# Altium schematic symbol library POE_Schlib.SchLib: 50 symbols
Pins are listed as number, name and electrical type; pins without a type are passive.

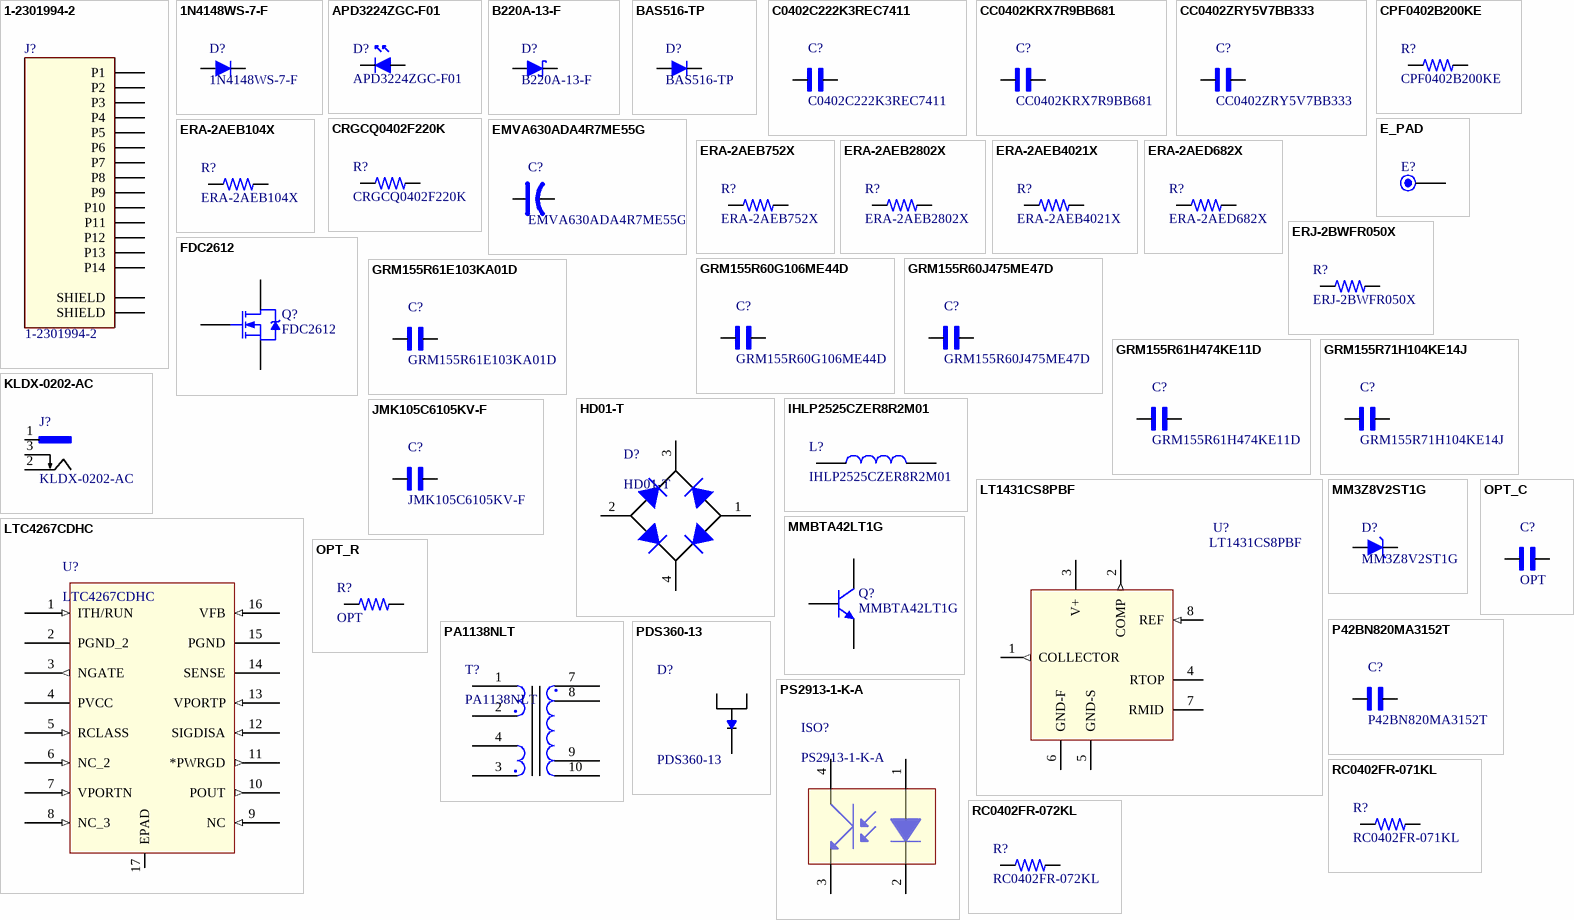
[diagram p0: symbols 1-2301994-2 to RC0402FR-072KL]

## 1-2301994-2
designator J?
SnapEDA_Link: https://www.snapeda.com/parts/1-2301994-2/TE%20Connectivity%20AMP%20Connectors/view-part/1504817/?ref=snap; Value: *
footprint *TE_1-2301994-2_1-2301994-2(Primary)
pins: P1, P2, P3, P4, P5, P6, P7, P8, P9, P10, P11, P12, P13, P14, SH1 SHIELD, SH2 SHIELD

## 1N4148WS-7-F
designator D?
Diode Standard 75V 150mA Surface Mount SOD-323; MF: Diodes Incorporated; SnapEDA_Link: https://www.snapeda.com/parts/1N4148WS-7-F/Multicomp/view-part/957937/?ref=snap; Value: 1N4148WS-7-F; Digi-Key Part Number: 1N4148WS-FDITR-ND; MP: 1N4148WS-7-F; Digi-Key_Purchase_URL: https://www.digikey.com.au/product-detail/en/diodes-incorporated/1N4148WS-7-F/1N4148WS-FDITR-ND/815127
footprint *SOD323_1N4148WS-7-F(Primary)
pins: A, C

## APD3224ZGC-F01
designator D?
Green 525nm LED Indication - Discrete 3.3V 1210 (3225 Metric); MF: Kingbright; Value: PD ON GRN; Package: None; MP: APD3224ZGC-F01; Digi-Key_Part_Number: 754-1089-2-ND; SnapEDA_Link: https://www.snapeda.com/parts/APD3224ZGC-F01/Kingbright/view-part/?ref=search&t=APD3224ZGC-F01; Digi-Key_Purchase_URL: https://www.digikey.com.au/product-detail/en/kingbright/APD3224ZGC-F01/754-1089-2-ND/1747487
footprint LED1210
pins: A, K

## B220A-13-F
designator D?
Diode Schottky 20V 2A Surface Mount SMA; MF: Diodes Incorporated; SnapEDA_Link: https://www.snapeda.com/parts/B220A-13-F/Diodes%20Inc./view-part/232956/?ref=snap; Value: *; Digi-Key Part Number: B220A-FDITR-ND; MP: B220A-13-F
footprint *SMA-DIODE
pins: 1 A, 2 C

## BAS516-TP
designator D?
Diode Standard 75V 250mA (DC) Surface Mount SOD-523; Value: BAS516; MF: Micro Commercial Co; SnapEDA_Link: https://www.snapeda.com/parts/BAS516/Nexperia%20USA/view-part/?ref=search&t=BAS516-TP; Digi-Key Part Number: BAS516-TPMSTR-ND; MP: BAS516-TP; Digi-Key_Purchase_URL: https://www.digikey.com.au/product-detail/en/micro-commercial-co/BAS516-TP/BAS516-TPMSTR-ND/7681805
footprint *SOD323_1N4148WS-7-F(Primary)
pins: A, C

## C0402C222K3REC7411
designator C?
2.2nF ±10% 25V Ceramic Capacitor X7R 0402 (1005 Metric); MF: Murata Electronics; MP: GRM155R60J475ME47D; SnapEDA_Link: https://www.snapeda.com/parts/GRM155R60J475ME47D/Murata/view-part/?ref=search&t=GRM155R60J475ME47D; Value: 2.2nF; Availability: Unavailable; Digi-Key Part Number: C0402C222K3REC7411-ND
footprint *CAPC1005X55N
pins: 1, 2

## CC0402KRX7R9BB681
designator C?
680pF ±10% 50V Ceramic Capacitor X7R 0402 (1005 Metric); MF: Yageo; SnapEDA_Link: https://www.snapeda.com/parts/CC0402KRX7R9BB681/Yageo/view-part/?ref=search&t=CC0402KRX7R9BB681; Value: 680pF; MP: CC0402KRX7R9BB681; Availability: Unavailable; Digi-Key Part Number: 311-1030-2-ND
footprint *CAPC1005X55N
pins: 1, 2

## CC0402ZRY5V7BB333
designator C?
0.033µF -20%, +80% 16V Ceramic Capacitor Y5V (F) 0402 (1005 Metric); Value: 0.033uF; MF: Yageo; SnapEDA_Link: https://www.snapeda.com/parts/CC0402ZRY5V7BB333/Yageo/view-part/?ref=search&t=CC0402ZRY5V7BB333; MP: CC0402ZRY5V7BB333; Availability: Unavailable; Digi-Key Part Number: 311-1044-2-ND
footprint *CAPC1005X55N
pins: 1, 2

## CPF0402B200KE
designator R?
200 kOhms ±0.1% 0.063W, 1/16W Chip Resistor 0402 (1005 Metric) Thin Film; MF: TE Connectivity Passive Product; Value: 200K; Package: none; MP: CPF0402B200KE; Digi-Key_Part_Number: A119933TR-ND; SnapEDA_Link: https://www.snapeda.com/parts/CPF0402B200KE/TE%20Connectivity/view-part/?ref=search&t=CPF0402B200KE; Digi-Key_Purchase_URL: https://www.digikey.com.au/product-detail/en/te-connectivity-passive-product/CPF0402B200KE/A119933TR-ND/4966463
footprint RESC1005X40N
pins: 1, 2

## CRGCQ0402F220K
designator R?
220 kOhms ±1% 0.063W, 1/16W Chip Resistor 0402 (1005 Metric) Automotive AEC-Q200, Moisture Resistant Thick Film; MF: TE Connectivity Passive Product; Value: 220K; Package: None; MP: CRGCQ0402F220K; Digi-Key_Part_Number: A129655TR-ND; SnapEDA_Link: https://www.snapeda.com/parts/CRGCQ0402F220K/TE%20Connectivity/view-part/?ref=search&t=CRGCQ0402F220K; Digi-Key_Purchase_URL: https://www.digikey.com.au/product-detail/en/te-connectivity-passive-product/CRGCQ0402F220K/A129655TR-ND/8576257
footprint RESC1005X40N
pins: 1, 2

## E_PAD
designator E?  (value not drawn)
footprint E_PAD
pins: 1

## EMVA630ADA4R7ME55G
designator C?
4.7µF 63V Aluminum Electrolytic Capacitors Radial, Can - SMD 2000 Hrs @ 85°C; Value: 4.7uF; MF: United Chemi-Con; SnapEDA_Link: https://www.snapeda.com/parts/EMVA630ADA4R7ME55G/United%20Chemi-Con/view-part/?ref=search&t=EMVA630ADA4R7ME55G; MP: EMVA630ADA4R7ME55G; Availability: Unavailable
footprint CAPAE5953X52M (Aluminum Electrolytic Capacitor, Body 5.30x5.30x5.20mm, IPC Low Density)
pins: 1, 2

## ERA-2AEB104X
designator R?
100 kOhms Â±0.1% 0.063W, 1/16W Chip Resistor 0402 _1005 Metric_ Automotive AEC-Q200 Thin Film; MF: Panasonic Electronic; Value: 100K; Package: 1005 Panasonic Electronic Components; MP: ERA-2AEB104X; Digi-Key_Part_Number: P100KDCCT-ND; SnapEDA_Link: https://www.snapeda.com/parts/ERA-2AEB104X/Panasonic%20Electronic%20Components/view-part/419877/?ref=snap; Digi-Key_Purchase_URL: https://www.digikey.com/product-detail/en/panasonic-electronic-components/ERA-2AEB104X/P100KDCCT-ND/1706231?utm_source=snapeda&utm_medium=aggregator&utm_campaign=symbol
footprint RESC1005X40N
pins: 1, 2

## ERA-2AEB752X
designator R?
7.5 kOhms ±0.1% 0.063W, 1/16W Chip Resistor 0402 (1005 Metric) Automotive AEC-Q200 Thin Film; MF: Panasonic Electronic Components; Value: 7.5K; Package: None; MP: ERA-2AEB752X; Digi-Key_Part_Number: P7.5KDCTR-ND; SnapEDA_Link: https://www.snapeda.com/parts/ERA-2AEB752X/Panasonic/view-part/?ref=search&t=ERA-2AEB752X; Digi-Key_Purchase_URL: https://www.digikey.com.au/product-detail/en/panasonic-electronic-components/ERA-2AEB752X/P7-5KDCTR-ND/1706026
footprint RESC1005X40N
pins: 1, 2

## ERA-2AEB2802X
designator R?
28 kOhms ±0.1% 0.063W, 1/16W Chip Resistor 0402 (1005 Metric) Automotive AEC-Q200 Thin Film; MF: Panasonic Electronic Components; Value: 28K; Package: None; MP: ERA-2AEB2802X; Digi-Key_Part_Number: P28KDCTR-ND; SnapEDA_Link: https://www.snapeda.com/parts/ERA-2AEB2802X/Panasonic/view-part/?ref=search&t=ERA-2AEB2802X; Digi-Key_Purchase_URL: https://www.digikey.com.au/product-detail/en/panasonic-electronic-components/ERA-2AEB2802X/P28KDCTR-ND/2026182
footprint RESC1005X40N
pins: 1, 2

## ERA-2AEB4021X
designator R?
4.02 kOhms ±0.1% 0.063W, 1/16W Chip Resistor 0402 (1005 Metric) Automotive AEC-Q200 Thin Film; MF: Panasonic Electronic Components; Value: 4.02K; Package: None; MP: ERA-2AEB4021X; Digi-Key_Part_Number: P4.02KDCTR-ND; SnapEDA_Link: https://www.snapeda.com/parts/ERA-2AEB4021X/Panasonic%20Electronic/view-part/?ref=search&t=ERA-2AEB4021X; Digi-Key_Purchase_URL: https://www.digikey.com.au/product-detail/en/panasonic-electronic-components/ERA-2AEB4021X/P4-02KDCTR-ND/2026107
footprint RESC1005X40N
pins: 1, 2

## ERA-2AED682X
designator R?
6.8 kOhms ±0.5% 0.063W, 1/16W Chip Resistor 0402 (1005 Metric) Automotive AEC-Q200 Thin Film; MF: Panasonic Electronic Components; Value: 6.8K; Package: none; MP: ERA-2AED682X; Digi-Key_Part_Number: P6.8KDETR-ND; SnapEDA_Link: https://www.snapeda.com/parts/ERA-2AED682X/Panasonic/view-part/?ref=search&t=ERA-2AED682X; Digi-Key_Purchase_URL: https://www.digikey.com.au/product-detail/en/panasonic-electronic-components/ERA-2AED682X/P6-8KDETR-ND/1706122
footprint RESC1005X40N
pins: 1, 2

## ERJ-2BWFR050X
designator R?
50 mOhms ±1% 0.25W, 1/4W Chip Resistor 0402 (1005 Metric) Automotive AEC-Q200, Current Sense Thick Film; MF: Panasonic Electronic Components; Value: 0.05R; Package: None; MP: ERJ-2BWFR050X; Digi-Key_Part_Number: P17367TR-ND; SnapEDA_Link: https://www.snapeda.com/parts/ERJ-2BWFR050X/Panasonic%20Electronic/view-part/?ref=search&t=ERJ-2BWFR050X; Digi-Key_Purchase_URL: https://www.digikey.com.au/product-detail/en/panasonic-electronic-components/ERJ-2BWFR050X/P17367TR-ND/5647400
footprint RESC1005X40N
pins: 1, 2

## FDC2612
designator Q?
N-Channel 200V 1.1A (Ta) 1.6W (Ta) Surface Mount SuperSOT™-6; MF: ON Semiconductor; SnapEDA_Link: https://www.snapeda.com/parts/FDC2612/ON%20Semiconductor/view-part/?ref=search&t=FDC2612; Digi-Key_Purchase_URL: https://www.digikey.com.au/product-detail/en/on-semiconductor/FDC2612/FDC2612TR-ND/979778; Digi-Key Part Number: FDC2612TR-ND; MP: FDC2612; Value: FDC2612; ComponentLink1Description: Manufacturer Link; ComponentLink1URL: http://www.irf.com/
footprint *SOT95P280X100-6N
simulation model IRF1010 (Spice Subcircuit)
pins: 1 D, 2 D, 3 G, 4 S, 5 D, 6 D

## GRM155R60G106ME44D
designator C?
10µF ±20% 4V Ceramic Capacitor X5R 0402 (1005 Metric); Value: 10uF; MF: Murata Electronics; SnapEDA_Link: https://www.snapeda.com/parts/GRM155R60G106ME44D/Murata/view-part/?ref=search&t=GRM155R60G106ME44D; MP: GRM155R60G106ME44D; Availability: Unavailable; Digi-Key Part Number: 490-10693-2-ND
footprint *CAPC1005X55N
pins: 1, 2

## GRM155R60J475ME47D
designator C?
4.7µF ±20% 6.3V Ceramic Capacitor X5R 0402 (1005 Metric); Value: 4.7uF; MF: Murata Electronics; SnapEDA_Link: https://www.snapeda.com/parts/GRM155R60J475ME47D/Murata/view-part/?ref=search&t=GRM155R60J475ME47D; MP: GRM155R60J475ME47D; Availability: Unavailable
footprint *CAPC1005X55N
pins: 1, 2

## GRM155R61E103KA01D
designator C?
0.01uF ±10% 25V Ceramic Capacitor X5R 0402 (1005 Metric); MF: Murata Electronics; SnapEDA_Link: https://www.snapeda.com/parts/GRM155R61E103KA01D/Murata%20Electronics/view-part/?ref=search&t=GRM155R61E103KA01D; Value: 0.01uF; MP: GRM155R61E103KA01D; Availability: Unavailable
footprint *CAPC1005X55N
pins: 1, 2

## GRM155R61H474KE11D
designator C?
0.47µF ±10% 50V Ceramic Capacitor X5R 0402 (1005 Metric); Value: 0.47uF; MF: Murata Electronics; SnapEDA_Link: https://www.snapeda.com/parts/GRM155R61H474KE11D/Murata%20Electronics/view-part/?ref=search&t=GRM155R61H474KE11D; MP: GRM155R61H474KE11D; Availability: Unavailable
footprint *CAPC1005X55N
pins: 1, 2

## GRM155R71H104KE14J
designator C?
SMD Capacitor X7R(EIA) with Capacitance: 0.10uF Tol. 10%. Rated Voltage: 50Vdc; Value: 0.1uF; MF: Murata Electronics; SnapEDA_Link: https://www.snapeda.com/parts/GRM155R71H104KE14J/Murata%20Electronics%20North%20America/view-part/1836262/?ref=snap; MP: GRM155R71H104KE14J; Availability: Unavailable
footprint *CAPC1005X55N
pins: 1, 2

## HD01-T
designator D?
Bridge Rectifier Single Phase Standard 100V Surface Mount 4-MiniDIP; MF: Diodes Incorporated; Availability: Unavailable; MP: HD01-T; Package: None; Price: None; SnapEDA_Link: https://www.snapeda.com/parts/HD01-T/Diodes%20Inc./view-part/?ref=search&t=HD01-T; Value: *
footprint HD01-T (Bridge Rectifier Single Phase Standard 100V Surface Mount 4-MiniDIP)
pins: 1, 2, 3, 4

## IHLP2525CZER8R2M01
designator L?
8.2µH Shielded Molded Inductor 4A 68mOhm Max Nonstandard; MF: Vishay Dale; Value: 8.2uH; Availability: Unavailable; MP: IHLP2525CZER8R2M01; Package: None; Price: None; SnapEDA_Link: https://www.snapeda.com/parts/IHLP2525CZER8R2M01/Vishay%20Dale/view-part/?ref=search&t=IHLP2525CZER8R2M01
footprint INDP6866X23N (Precision Wire Wound Inductor, 2-Leads, Body 6.81x6.59mm, IPC Medium Density)
pins: 1, 2

## JMK105C6105KV-F
designator C?
1µF ±10% 6.3V Ceramic Capacitor X6S 0402 (1005 Metric); Value: 1uF; MF: Taiyo Yuden; SnapEDA_Link: https://www.snapeda.com/parts/JMK105C6105KV-F/Taiyo%20Yuden/view-part/?ref=search&t=JMK105C6105KV-F; MP: JMK105C6105KV-F; Availability: Unavailable; Digi-Key_Part_Number: 587-3381-2-ND; Digi-Key_Purchase_URL: https://www.digikey.com.au/product-detail/en/taiyo-yuden/JMK105C6105KV-F/587-3381-2-ND/4157224
footprint *CAPC1005X55N
pins: 1, 2

## KLDX-0202-AC
designator J?
SnapEDA_Link: https://www.snapeda.com/parts/KLDX-0202-AC/Kycon/view-part/479593/?ref=snap; Value: *
footprint *KYCON_KLDX-0202-AC
pins: 1, 2, 3

## LT1431CS8PBF
designator U?
Shunt Voltage Reference IC 36V ±0.4% 8-SOIC; MF: Linear Technology/Analog Devices; MP: LT1431CS8#PBF; SnapEDA_Link: https://www.snapeda.com/parts/LT1431CS8%23PBF/Analog%20Devices/view-part/4342248/?ref=snap; Value: LT1431CS8PBF; Digi-Key Part Number: LT1431CS8#PBF-ND
footprint *SO-8_S
pins: 1 COLLECTOR (out), 2 COMP (out), 3 V+ (power), 4 RTOP, 5 GND-S (power), 6 GND-F (power), 7 RMID, 8 REF (in)

## LTC4267CDHC
designator U?
Power Switch ICs - POE / LAN LTC4267 - Power over Ethernet IEEE 802.3af PD Interface with Integrated Switching Regulator; MF: Analog Devices / Linear Technology; Price: None; Availability: Unavailable; Package: None; SnapEDA_Link: https://www.snapeda.com/parts/LTC4267CDHC/Analog%20Devices/view-part/4219202/?ref=snap; MP: LTC4267CDHC; Value: *
footprint DFN-16_DHC
pins: 1 ITH/RUN (in), 2 PGND_2 (power), 3 NGATE (out), 4 PVCC (power), 5 RCLASS (in), 6 NC_2 (in), 7 VPORTN (in), 8 NC_3 (in), 9 NC (in), 10 POUT (out), 11 *PWRGD (out), 12 SIGDISA (in), 13 VPORTP (in), 14 SENSE, 15 PGND (power), 16 VFB (in), 17 EPAD

## MM3Z8V2ST1G
designator D?
Zener Diode 8.2V 300mW ±2% Surface Mount SOD-323; MF: ON Semiconductor; SnapEDA_Link: https://www.snapeda.com/parts/MM3Z8V2ST1G/ON%20Semiconductor/view-part/?ref=search&t=MM3Z8V2ST1G; Value: 8.2V; Digi-Key_Part_Number: MM3Z8V2ST1GOSTR-ND; Digi-Key_Purchase_URL: https://www.digikey.com.au/product-detail/en/on-semiconductor/MM3Z8V2ST1G/MM3Z8V2ST1GOSTR-ND/661874; MP: MM3Z8V2ST1G
footprint *SOD323_1N4148WS-7-F(Primary)
pins: A, C

## MMBTA42LT1G
designator Q?
Bipolar (BJT) Transistor NPN 300V 500mA 50MHz 225mW Surface Mount SOT-23-3 (TO-236); MF: ON Semiconductor; Value: MMBTA42LT1G; SnapEDA_Link: https://www.snapeda.com/parts/MMBTA42LT1G/ON%20Semiconductor/view-part/?ref=search&t=MMBTA42LT1G; MP: MMBTA42LT1G; Digi-Key_Part_Number: MMBTA42LT1GOSTR-ND; Digi-Key_Purchase_URL: https://www.digikey.com.au/product-detail/en/on-semiconductor/MMBTA42LT1G/MMBTA42LT1GOSTR-ND/919627
footprint SOT-23-3(TO-236)
simulation model NPN
signal-integrity model NPN
pins: 1 C, 2 B, 3 E

## OPT_C
designator C?, comment OPT
SnapEDA_Link: *; Value: OPT; MF: *; MP: *; Availability: Unavailable
footprint *CAPC1005X55N
pins: 1, 2

## OPT_R
designator R?, comment OPT
Package: none; MP: *; Digi-Key_Part_Number: *; SnapEDA_Link: *; MF: *; Digi-Key_Purchase_URL: *; Value: OPT
footprint RESC1005X40N
pins: 1, 2

## P42BN820MA3152T
designator C?
82pF, 0.22µF Bussed Capacitor Array 10V X5R 0402 (1005 Metric); Value: OPT; MF: Knowles Dielectric Labs; SnapEDA_Link: https://www.snapeda.com/parts/P42BN820MA3152T/Knowles%20Dielectric%20Labs/view-part/?ref=search&t=P42BN820MA3152T#download-modal; MP: P42BN820MA3152T; Availability: Unavailable; Digi-Key_Part_Number: 1761-1060-2-ND; Digi-Key_Purchase_URL: https://www.digikey.com.au/product-detail/en/knowles-dielectric-labs/P42BN820MA3152T/1761-1060-2-ND/7596253
footprint *CAPC1005X55N
pins: 1, 2

## PA1138NLT
designator T?
127µH Isolation and Data Interface (Encapsulated) Pulse Transformer 1:0.292:0.208 Surface Mount; MF: Pulse Electronics Power; Package: None; MP: PA1138NLT; Digi-Key_Part_Number: 553-1984-1-ND; SnapEDA_Link: https://www.snapeda.com/parts/PA1138NLT/Pulse%20Electronics/view-part/?ref=search&t=PA1138NLT; Digi-Key_Purchase_URL: https://www.digikey.com.au/product-detail/en/pulse-electronics-power/PA1138NLT/553-1984-1-ND/3179343; Value: PA1138NL
footprint EP13T
pins: 1, 2, 3, 4, 7, 8, 9, 10

## PDS360-13
designator D?
SnapEDA_Link: https://www.snapeda.com/parts/PDS360-13/Diodes%20Inc./view-part/110877/?ref=snap; Value: *
footprint *DIO_PDS360-13
pins: 1 LEFT_PIN_ANODE, 2 RIGHT_PIN_ANODE, 3 HEATSINK_CATHODE

## PS2913-1-K-A
designator ISO?
Optoisolator Transistor Output 2500Vrms 1 Channel 4-Mini-Flat; MF: CEL; Value: 8.2uH; Digi-Key_Part_Number: PS2913-1-K-A-ND; MP: PS2913-1-K-A; Digi-Key_Purchase_URL: https://www.digikey.com.au/product-detail/en/cel/PS2913-1-K-A/PS2913-1-K-A-ND/2614692; SnapEDA_Link: https://www.snapeda.com/parts/PS2913-1-K-A/CEL/view-part/?ref=search&t=ps2913-1-k-a#download-modal
footprint SOic254P1016X440-4N (SON, 4-Leads, Body 2.50x4.60mm, Pitch 1.27mm, IPC Medium Density)
pins: 1, 2, 3, 4

## RC0402FR-071KL
designator R?
1 kOhms ±1% 0.063W, 1/16W Chip Resistor 0402 (1005 Metric) Moisture Resistant Thick Film; MF: Yageo; Value: 1K; Package: None; MP: RC0402FR-071KL; Digi-Key_Part_Number: 311-1.00KLRTR-ND; SnapEDA_Link: https://www.snapeda.com/parts/RC0402FR-071KL/Yageo/view-part/?ref=search&t=RC0402FR-071KL; Digi-Key_Purchase_URL: https://www.digikey.com.au/product-detail/en/yageo/RC0402FR-071KL/311-1-00KLRTR-ND/726513
footprint RESC1005X40N
pins: 1, 2

## RC0402FR-072KL
designator R?
2 kOhms ±1% 0.063W, 1/16W Chip Resistor 0402 (1005 Metric) Moisture Resistant Thick Film; MF: Yageo; Value: 2K; Package: None; MP: RC0402FR-072KL; Digi-Key_Part_Number: 311-2KLRTR-ND; SnapEDA_Link: https://www.snapeda.com/parts/RC0402FR-072KL/Yageo/view-part/?ref=search&t=RC0402FR-072KL; Digi-Key_Purchase_URL: https://www.digikey.com.au/product-detail/en/yageo/RC0402FR-072KL/311-2KLRTR-ND/2827565
footprint RESC1005X40N
pins: 1, 2

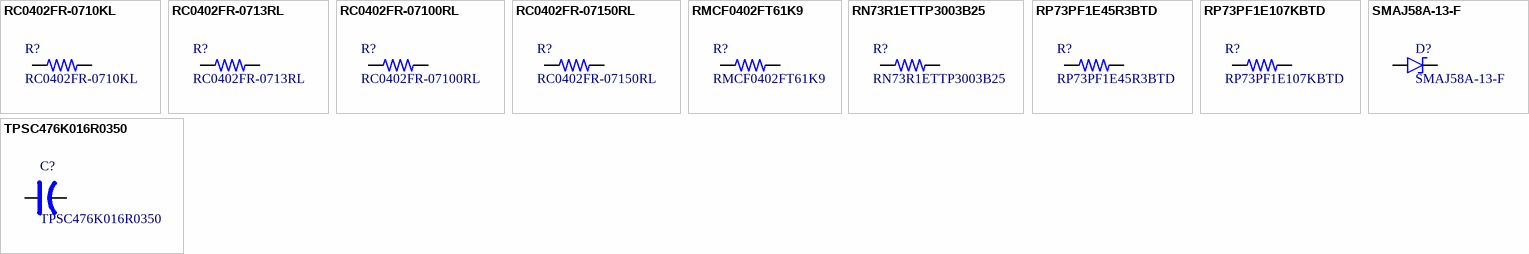
[diagram p1: symbols RC0402FR-0710KL to TPSC476K016R0350]

## RC0402FR-0710KL
designator R?
10 kOhms ±1% 0.063W, 1/16W Chip Resistor 0402 (1005 Metric) Moisture Resistant Thick Film; MF: Yageo; Value: 10K; Package: None; MP: RC0402FR-0710KL; Digi-Key_Part_Number: 311-10.0KLRTR-ND; SnapEDA_Link: https://www.snapeda.com/parts/RC0402FR-0710KL/Yageo/view-part/?ref=search&t=RC0402FR-0710KL; Digi-Key_Purchase_URL: https://www.digikey.com.au/product-detail/en/yageo/RC0402FR-0710KL/311-10-0KLRTR-ND/726523
footprint RESC1005X40N
pins: 1, 2

## RC0402FR-0713RL
designator R?
13 Ohms ±1% 0.063W, 1/16W Chip Resistor 0402 (1005 Metric) Moisture Resistant Thick Film; MF: Yageo; Value: 13R; Package: none; MP: RC0402FR-0713RL; Digi-Key_Part_Number: YAG2977TR-ND; SnapEDA_Link: https://www.snapeda.com/parts/RC0402FR-0713RL/Yageo/view-part/?ref=search&t=RC0402FR-0713RL; Digi-Key_Purchase_URL: https://www.digikey.com.au/product-detail/en/yageo/RC0402FR-0713RL/YAG2977TR-ND/5280837
footprint RESC1005X40N
pins: 1, 2

## RC0402FR-07100RL
designator R?
100 Ohms ±1% 0.063W, 1/16W Chip Resistor 0402 (1005 Metric) Moisture Resistant Thick Film; MF: Yageo; Value: 100R; Package: None; MP: RC0402FR-07100RL; Digi-Key_Part_Number: 311-100LRTR-ND; SnapEDA_Link: https://www.snapeda.com/parts/RC0402FR-07100RL/Yageo/view-part/?ref=search&t=RC0402FR-07100RL; Digi-Key_Purchase_URL: https://www.digikey.com.au/product-detail/en/yageo/RC0402FR-07100RL/311-100LRTR-ND/726527
footprint RESC1005X40N
pins: 1, 2

## RC0402FR-07150RL
designator R?
150 Ohms ±1% 0.063W, 1/16W Chip Resistor 0402 (1005 Metric) Moisture Resistant Thick Film; MF: Yageo; Value: 150R; Package: none; MP: RC0402FR-07150RL; Digi-Key_Part_Number: 311-150LRTR-ND; SnapEDA_Link: https://www.snapeda.com/parts/RC0402FR-07150RL/Yageo/view-part/?ref=search&t=RC0402FR-07150RL; Digi-Key_Purchase_URL: https://www.digikey.com.au/product-detail/en/yageo/RC0402FR-07150RL/311-150LRTR-ND/726543
footprint RESC1005X40N
pins: 1, 2

## RMCF0402FT61K9
designator R?
61.9 kOhms ±1% 0.063W, 1/16W Chip Resistor 0402 (1005 Metric) Automotive AEC-Q200 Thick Film; MF: Stackpole Electronics Inc; Value: 61.9K; Package: None; MP: RMCF0402FT61K9; Digi-Key_Part_Number: RMCF0402FT61K9TR-ND; SnapEDA_Link: https://www.snapeda.com/parts/RMCF0402FT61K9/Stackpole%20Electronics%20Inc/view-part/?ref=search&t=RMCF0402FT61K9; Digi-Key_Purchase_URL: https://www.digikey.com.au/product-detail/en/stackpole-electronics-inc/RMCF0402FT61K9/RMCF0402FT61K9TR-ND/1761731
footprint RESC1005X40N
pins: 1, 2

## RN73R1ETTP3003B25
designator R?
300 kOhms ±0.1% 0.063W, 1/16W Chip Resistor 0402 (1005 Metric) Moisture Resistant Metal Film; MF: KOA Speer Electronics, Inc.; Value: 300K; Package: None; MP: RN73R1ETTP3003B25; Digi-Key_Part_Number: 2019-RN73R1ETTP3003B25TR-ND; SnapEDA_Link: https://www.snapeda.com/parts/RN73R1ETTP3003B25/KOA%20Speer%20Electronics,%20Inc./view-part/?ref=search&t=RN73R1ETTP3003B25; Digi-Key_Purchase_URL: https://www.digikey.com.au/product-detail/en/koa-speer-electronics-inc/RN73R1ETTP3003B25/2019-RN73R1ETTP3003B25TR-ND/10003541
footprint RESC1005X40N
pins: 1, 2

## RP73PF1E45R3BTD
designator R?
Fixed Resistor RP 1E 0.1W 45R3 0.1% 25PPM 5K RL; MF: TE Connectivity Passive Product; Package: None; MP: RP73PF1E45R3BTD; Digi-Key_Part_Number: A127190TR-ND; SnapEDA_Link: https://www.snapeda.com/parts/RP73PF1E45R3BTD/TE%20Connectivity/view-part/?ref=search&t=RP73PF1E45R3BTD; Digi-Key_Purchase_URL: https://www.digikey.com.au/product-detail/en/te-connectivity-passive-product/RP73PF1E45R3BTD/A127190TR-ND/8260732; Value: 45R3
footprint RESC1005X40N
pins: 1, 2

## RP73PF1E107KBTD
designator R?
107 kOhms ±0.1% 0.1W, 1/10W Chip Resistor 0402 (1005 Metric) Thin Film; MF: TE Connectivity Passive Product; Value: 107K; Package: None; MP: RP73PF1E107KBTD; Digi-Key_Part_Number: A127514TR-ND; SnapEDA_Link: https://www.snapeda.com/parts/RP73PF1E107KBTD/TE%20Connectivity/view-part/?ref=search&t=RP73PF1E107KBTD; Digi-Key_Purchase_URL: https://www.digikey.com.au/product-detail/en/te-connectivity-passive-product/RP73PF1E107KBTD/A127514TR-ND/8261056
footprint RESC1005X40N
pins: 1, 2

## SMAJ58A-13-F
designator D?
93.6V Clamp 4.3A Ipp Tvs Diode Surface Mount SMA; MF: Littelfuse Inc.; MP: SMAJ58A-13-F; Package: DO-214 Littelfuse; Price: None; Value: *; SnapEDA_Link: https://www.snapeda.com/parts/SMAJ58A/Littelfuse%20Inc./view-part/53813/?ref=snap; Availability: Unavailable
footprint SMAJ
pins: A, K

## TPSC476K016R0350
designator C?
47µF Molded Tantalum Capacitors 16V 2312 (6032 Metric) 350mOhm; Value: 47uF; MF: AVX Corporation; SnapEDA_Link: https://www.snapeda.com/parts/TPSC476K016R0350/AVX/view-part/?ref=search&t=TPSC476K016R0350#download-modal; MP: TPSC476K016R0350; Availability: Unavailable; Digi-Key Part Number: 478-1773-2-ND
footprint CAPM6032X22N (Molded Capacitor, 2-Leads, Body 6.00x3.20mm, IPC Medium Density)
pins: 1, 2